# Altium schematic symbol library HeartSoundClone.SCHLIB: 35 symbols
Pins are listed as number, name and electrical type; pins without a type are passive.

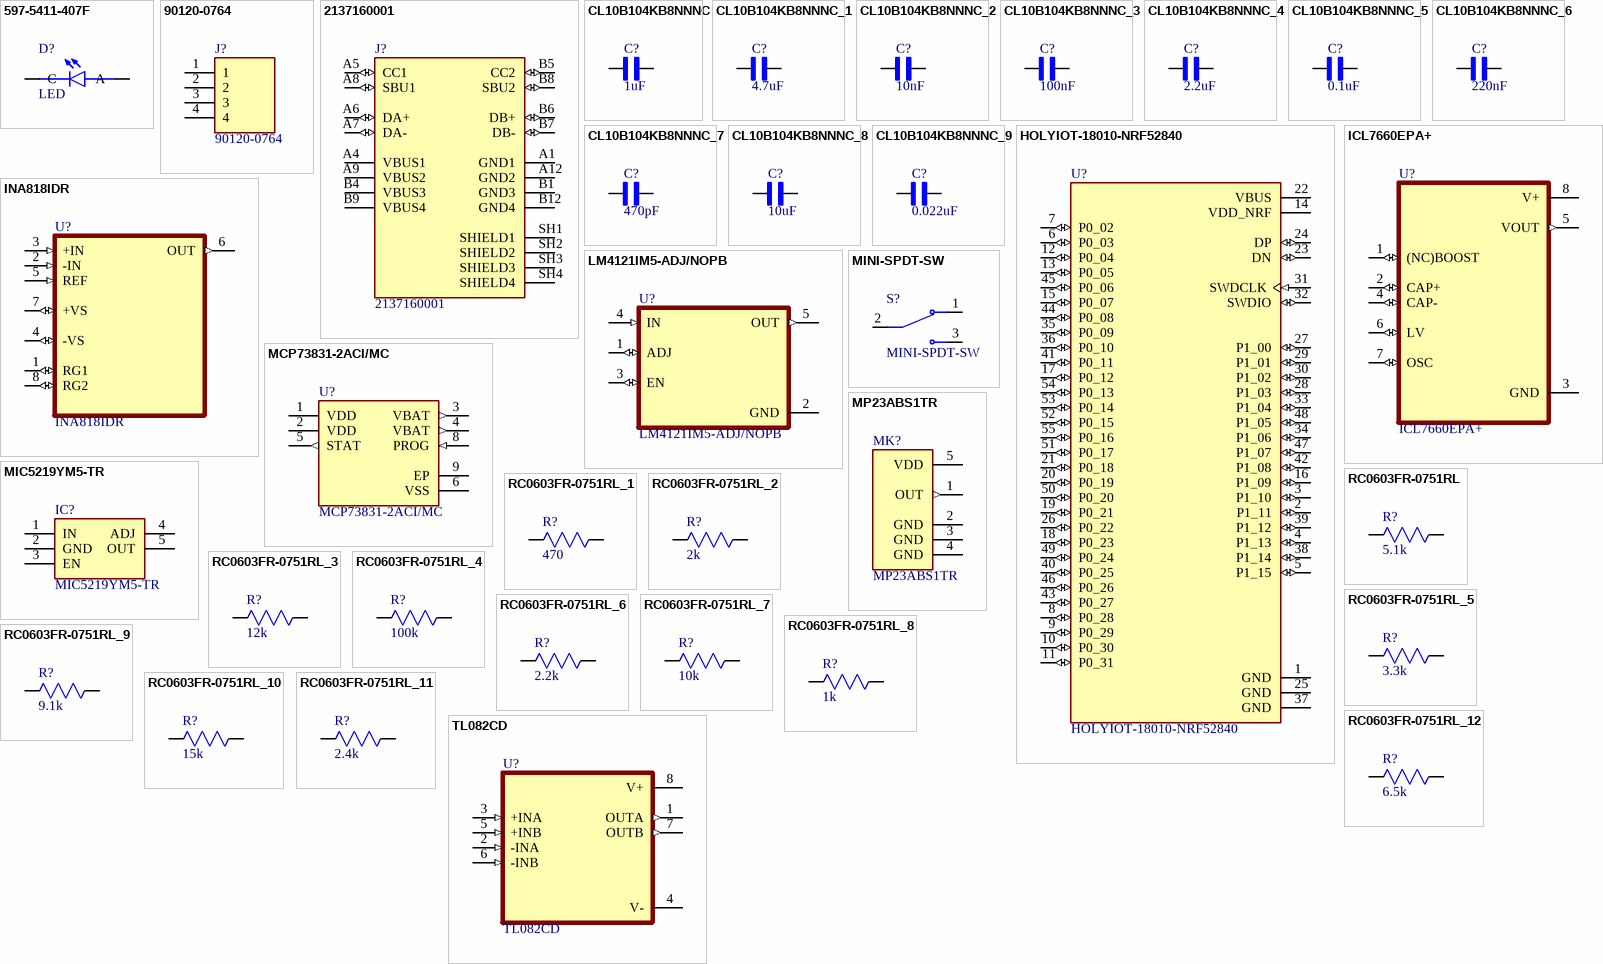
[diagram p0: symbols 597-5411-407F to TL082CD]

## 597-5411-407F
designator D?, comment LED
SMD LED 0805 YG 7 | Dialight 597-5411-407F; SnapEDA_Link: https://www.snapeda.com/parts/597-5411-407F/Dialight/view-part/?ref=snap; Package: 0805 Dialight; Value: *; MF: Dialight; MP: 597-5411-407F; Check_prices: https://www.snapeda.com/parts/597-5411-407F/Dialight/view-part/?ref=eda
footprint LEDC2012X70N
pins: A, C

## 90120-0764
designator J?
Connector; Manufacturer_Name: Molex; Datasheet Link: https://www.molex.com/webdocs/datasheets/pdf/en-us/0901200764_PCB_HEADERS.pdf; Height: 5.6mm; Manufacturer_Part_Number: 90120-0764; Mouser Part Number: 538-90120-0764; Mouser Price/Stock: https://www.mouser.co.uk/ProductDetail/Molex/90120-0764?qs=QSnLD11VNirsMTdnHEPG3Q%3D%3D
footprint HDRV4W90P0X254_1X4_994X249X560P
pins: 1, 2, 3, 4

## 2137160001
designator J?
USB-C (USB TYPE-C) USB 2.0 Receptacle Connector 24 (16+8 Dummy) Position Through Hole, Right Angle; MF: Molex; SnapEDA_Link: https://www.snapeda.com/parts/2137160001/Molex/view-part/?ref=snap; Package: None; Value: *; MP: 2137160001; Check_prices: https://www.snapeda.com/parts/2137160001/Molex/view-part/?ref=eda
footprint MOLEX_2137160001
pins: A1 GND1 (power), A4 VBUS1 (power), A5 CC1 (io), A6 DA+ (io), A7 DA- (io), A8 SBU1 (io), A9 VBUS2 (power), A12 GND2 (power), B1 GND3 (power), B4 VBUS3 (power), B5 CC2 (io), B6 DB+ (io), B7 DB- (io), B8 SBU2 (io), B9 VBUS4 (power), B12 GND4 (power), SH1 SHIELD1, SH2 SHIELD2, SH3 SHIELD3, SH4 SHIELD4

## CL10B104KB8NNNC
designator C?, comment 1uF
0.1 ÂµF Â±10% 50V Ceramic Capacitor X7R 0603 (1608 Metric); MF: Samsung Electro-Mechanics; MP: CL10B104KB8NNNC; SnapEDA_Link: https://www.snapeda.com/parts/CL10B104KB8NNNC/Samsung/view-part/?ref=snap; Package: 1608-2 SAMSUNG; Value: *; Check_prices: https://www.snapeda.com/parts/CL10B104KB8NNNC/Samsung/view-part/?ref=eda
footprint CAPC1608X90N
pins: 1, 2

## CL10B104KB8NNNC_1
designator C?, comment 4.7uF
0.1 ÂµF Â±10% 50V Ceramic Capacitor X7R 0603 (1608 Metric); MF: Samsung Electro-Mechanics; MP: CL10B104KB8NNNC; SnapEDA_Link: https://www.snapeda.com/parts/CL10B104KB8NNNC/Samsung/view-part/?ref=snap; Package: 1608-2 SAMSUNG; Value: *; Check_prices: https://www.snapeda.com/parts/CL10B104KB8NNNC/Samsung/view-part/?ref=eda
footprint CAPC1608X90N
pins: 1, 2

## CL10B104KB8NNNC_2
designator C?, comment 10nF
0.1 ÂµF Â±10% 50V Ceramic Capacitor X7R 0603 (1608 Metric); MF: Samsung Electro-Mechanics; MP: CL10B104KB8NNNC; SnapEDA_Link: https://www.snapeda.com/parts/CL10B104KB8NNNC/Samsung/view-part/?ref=snap; Package: 1608-2 SAMSUNG; Value: *; Check_prices: https://www.snapeda.com/parts/CL10B104KB8NNNC/Samsung/view-part/?ref=eda
footprint CAPC1608X90N
pins: 1, 2

## CL10B104KB8NNNC_3
designator C?, comment 100nF
0.1 ÂµF Â±10% 50V Ceramic Capacitor X7R 0603 (1608 Metric); MF: Samsung Electro-Mechanics; MP: CL10B104KB8NNNC; SnapEDA_Link: https://www.snapeda.com/parts/CL10B104KB8NNNC/Samsung/view-part/?ref=snap; Package: 1608-2 SAMSUNG; Value: *; Check_prices: https://www.snapeda.com/parts/CL10B104KB8NNNC/Samsung/view-part/?ref=eda
footprint CAPC1608X90N
pins: 1, 2

## CL10B104KB8NNNC_4
designator C?, comment 2.2uF
0.1 ÂµF Â±10% 50V Ceramic Capacitor X7R 0603 (1608 Metric); MF: Samsung Electro-Mechanics; MP: CL10B104KB8NNNC; SnapEDA_Link: https://www.snapeda.com/parts/CL10B104KB8NNNC/Samsung/view-part/?ref=snap; Package: 1608-2 SAMSUNG; Value: *; Check_prices: https://www.snapeda.com/parts/CL10B104KB8NNNC/Samsung/view-part/?ref=eda
footprint CAPC1608X90N
pins: 1, 2

## CL10B104KB8NNNC_5
designator C?, comment 0.1uF
0.1 ÂµF Â±10% 50V Ceramic Capacitor X7R 0603 (1608 Metric); MF: Samsung Electro-Mechanics; MP: CL10B104KB8NNNC; SnapEDA_Link: https://www.snapeda.com/parts/CL10B104KB8NNNC/Samsung/view-part/?ref=snap; Package: 1608-2 SAMSUNG; Value: *; Check_prices: https://www.snapeda.com/parts/CL10B104KB8NNNC/Samsung/view-part/?ref=eda
footprint CAPC1608X90N
pins: 1, 2

## CL10B104KB8NNNC_6
designator C?, comment 220nF
0.1 ÂµF Â±10% 50V Ceramic Capacitor X7R 0603 (1608 Metric); MF: Samsung Electro-Mechanics; MP: CL10B104KB8NNNC; SnapEDA_Link: https://www.snapeda.com/parts/CL10B104KB8NNNC/Samsung/view-part/?ref=snap; Package: 1608-2 SAMSUNG; Value: *; Check_prices: https://www.snapeda.com/parts/CL10B104KB8NNNC/Samsung/view-part/?ref=eda
footprint CAPC1608X90N
pins: 1, 2

## CL10B104KB8NNNC_7
designator C?, comment 470pF
0.1 ÂµF Â±10% 50V Ceramic Capacitor X7R 0603 (1608 Metric); MF: Samsung Electro-Mechanics; MP: CL10B104KB8NNNC; SnapEDA_Link: https://www.snapeda.com/parts/CL10B104KB8NNNC/Samsung/view-part/?ref=snap; Package: 1608-2 SAMSUNG; Value: *; Check_prices: https://www.snapeda.com/parts/CL10B104KB8NNNC/Samsung/view-part/?ref=eda
footprint CAPC1608X90N
pins: 1, 2

## CL10B104KB8NNNC_8
designator C?, comment 10uF
0.1 ÂµF Â±10% 50V Ceramic Capacitor X7R 0603 (1608 Metric); MF: Samsung Electro-Mechanics; MP: CL10B104KB8NNNC; SnapEDA_Link: https://www.snapeda.com/parts/CL10B104KB8NNNC/Samsung/view-part/?ref=snap; Package: 1608-2 SAMSUNG; Value: *; Check_prices: https://www.snapeda.com/parts/CL10B104KB8NNNC/Samsung/view-part/?ref=eda
footprint CAPC1608X90N
pins: 1, 2

## CL10B104KB8NNNC_9
designator C?, comment 0.022uF
0.1 ÂµF Â±10% 50V Ceramic Capacitor X7R 0603 (1608 Metric); MF: Samsung Electro-Mechanics; MP: CL10B104KB8NNNC; SnapEDA_Link: https://www.snapeda.com/parts/CL10B104KB8NNNC/Samsung/view-part/?ref=snap; Package: 1608-2 SAMSUNG; Value: *; Check_prices: https://www.snapeda.com/parts/CL10B104KB8NNNC/Samsung/view-part/?ref=eda
footprint CAPC1608X90N
pins: 1, 2

## HOLYIOT-18010-NRF52840
designator U?
Holyiot 18010 Nordic nRF52840 module Bluetooth low energy module; SnapEDA_Link: https://www.snapeda.com/parts/HOLYIOT-18010-NRF52840/Holyiot/view-part/?ref=snap; Package: Package; Value: *; MF: Holyiot; MP: HOLYIOT-18010-NRF52840; Check_prices: https://www.snapeda.com/parts/HOLYIOT-18010-NRF52840/Holyiot/view-part/?ref=eda
footprint XCVR_HOLYIOT-18010-NRF52840
pins: 1 GND (power), 2 P1_11 (io), 3 P1_10 (io), 4 P1_13 (io), 5 P1_15 (io), 6 P0_03 (io), 7 P0_02 (io), 8 P0_28 (io), 9 P0_29 (io), 10 P0_30 (io), 11 P0_31 (io), 12 P0_04 (io), 13 P0_05 (io), 14 VDD_NRF (power), 15 P0_07 (io), 16 P1_09 (io), 17 P0_12 (io), 18 P0_23 (io), 19 P0_21 (io), 20 P0_19 (io), 21 P0_18 (io), 22 VBUS (power), 23 DN (io), 24 DP (io), 25 GND (power), 26 P0_22 (io), 27 P1_00 (io), 28 P1_03 (io), 29 P1_01 (io), 30 P1_02 (io), 31 SWDCLK (in), 32 SWDIO (io), 33 P1_04 (io), 34 P1_06 (io), 35 P0_09 (io), 36 P0_10 (io), 37 GND (power), 38 P1_14 (io), 39 P1_12 (io), 40 P0_25 (io), 41 P0_11 (io), 42 P1_08 (io), 43 P0_27 (io), 44 P0_08 (io), 45 P0_06 (io), 46 P0_26 (io), 47 P1_07 (io), 48 P1_05 (io), 49 P0_24 (io), 50 P0_20 (io), 51 P0_17 (io), 52 P0_15 (io), 53 P0_14 (io), 54 P0_13 (io), 55 P0_16 (io)

## ICL7660EPA+
designator U?
Switched-Capacitor Voltage Converters; MF: Analog Devices; Price: None; Purchase-URL: https://pricing.snapeda.com/search/part/ICL7660EPA+/?ref=eda; Package: PDIP-8 Maxim; Check_prices: https://www.snapeda.com/parts/ICL7660EPA+/Analog+Devices/view-part/?ref=eda; Availability: In Stock; MP: ICL7660EPA+; Value: *; SnapEDA_Link: https://www.snapeda.com/parts/ICL7660EPA+/Analog+Devices/view-part/?ref=snap
footprint DIP794W47P254L991H457Q8
pins: 1 (NC)BOOST (io), 2 CAP+ (io), 3 GND (power), 4 CAP- (io), 5 VOUT (out), 6 LV (io), 7 OSC (io), 8 V+ (power)

## INA818IDR
designator U?
Low power (350-ÂµA), precision instrumentation amp with Â±60-V overvoltage protection (gain pins 1, 8); MF: Texas Instruments; SnapEDA_Link: https://www.snapeda.com/parts/INA818IDR/Texas+Instruments/view-part/?ref=snap; Package: SOIC-8 Texas Instruments; Value: *; MP: INA818IDR; Check_prices: https://www.snapeda.com/parts/INA818IDR/Texas+Instruments/view-part/?ref=eda
footprint SOIC127P599X175-8N
pins: 1 RG1 (io), 2 -IN (in), 3 +IN (in), 4 -VS (io), 5 REF (in), 6 OUT (out), 7 +VS (io), 8 RG2 (io)

## LM4121IM5-ADJ/NOPB
designator U?
Fixed & adjustable-voltage, 0.2% 50-ppm/Â°C drift precision series voltage reference with enable pin; MF: Texas Instruments; SnapEDA_Link: https://www.snapeda.com/parts/LM4121IM5-ADJ/NOPB/Texas+Instruments/view-part/?ref=snap; Package: SOT-23-5 Texas Instruments; Value: *; MP: LM4121IM5-ADJ/NOPB; Check_prices: https://www.snapeda.com/parts/LM4121IM5-ADJ/NOPB/Texas+Instruments/view-part/?ref=eda
footprint SOT95P280X145-5N
pins: 1 ADJ (io), 2 GND (power), 3 EN (io), 4 IN (in), 5 OUT (out)

## MCP73831-2ACI/MC
designator U?
Charge Controller Li-Ion/Li-Pol 15mA to 500mA 4.2V 8-Pin DFN EP | Microchip Technology Inc. MCP73831-2ACI/MC; SnapEDA_Link: https://www.snapeda.com/parts/MCP73831-2ACI/MC/Microchip/view-part/?ref=snap; Package: VFDFN-8 Microchip; Value: *; MF: Microchip; MP: MCP73831-2ACI/MC; Check_prices: https://www.snapeda.com/parts/MCP73831-2ACI/MC/Microchip/view-part/?ref=eda
footprint SON50P200X300X100-9N
pins: 1 VDD (power), 2 VDD (power), 3 VBAT (out), 4 VBAT (out), 5 STAT (out), 6 VSS (power), 8 PROG (in), 9 EP (power)

## MIC5219YM5-TR
designator IC?
Integrated Circuit; Manufacturer_Name: Microchip; Datasheet Link: http://www.microchip.com/mymicrochip/filehandler.aspx?ddocname=en579712; Height: 1.45mm; Manufacturer_Part_Number: MIC5219YM5-TR; Mouser Part Number: 998-MIC5219YM5TR; Mouser Price/Stock: https://www.mouser.co.uk/ProductDetail/Microchip-Technology/MIC5219YM5-TR?qs=U6T8BxXiZAWfHDmqF70%2FoQ%3D%3D; Arrow Part Number: MIC5219YM5-TR; Arrow Price/Stock: https://www.arrow.com/en/products/mic5219ym5-tr/microchip-technology?utm_currency=USD&region=nac
footprint SOT95P280X145-5N
pins: 1 IN, 2 GND, 3 EN, 4 ADJ, 5 OUT

## MINI-SPDT-SW
designator S?
Simple breadboard friendly SPDT slide switch. Rated at 30V/200mA with operating force of 250 +/-100gf.; Availability: Unavailable; Package: None; MP: MINI-SPDT-SW; Value: *; Price: None
footprint SW_MINI-SPDT-SW
pins: 1, 2, 3

## MP23ABS1TR
designator MK?
35 Hz ~ 1.5 kHz Analog Microphone MEMS (Silicon) Omnidirectional (-38dB Â±1dB @ 94dB SPL) Solder Pads; MF: STMicroelectronics; SnapEDA_Link: https://www.snapeda.com/parts/MP23ABS1TR/STMicroelectronics/view-part/?ref=snap; Package: None; Value: *; MP: MP23ABS1TR; Check_prices: https://www.snapeda.com/parts/MP23ABS1TR/STMicroelectronics/view-part/?ref=eda
footprint MIC_MP23ABS1TR
pins: 1 OUT (out), 2 GND (power), 3 GND (power), 4 GND (power), 5 VDD (power)

## RC0603FR-0751RL
designator R?, comment 5.1k
51 Ohms Â±1% 0.1W, 1/10W Chip Resistor 0603 (1608 Metric) Moisture Resistant Thick Film; MF: Yageo Corporation; MP: RC0603FR0751RL; SnapEDA_Link: https://www.snapeda.com/parts/RC0603FR0751RL/Yageo/view-part/?ref=snap; Package: 0603-2 YAGEO; Value: *; Check_prices: https://www.snapeda.com/parts/RC0603FR0751RL/Yageo/view-part/?ref=eda
footprint RESC1608X60N
pins: 1 R1, 2 R2

## RC0603FR-0751RL_1
designator R?, comment 470
51 Ohms Â±1% 0.1W, 1/10W Chip Resistor 0603 (1608 Metric) Moisture Resistant Thick Film; MF: Yageo Corporation; MP: RC0603FR0751RL; SnapEDA_Link: https://www.snapeda.com/parts/RC0603FR0751RL/Yageo/view-part/?ref=snap; Package: 0603-2 YAGEO; Value: *; Check_prices: https://www.snapeda.com/parts/RC0603FR0751RL/Yageo/view-part/?ref=eda
footprint RESC1608X60N
pins: 1 R1, 2 R2

## RC0603FR-0751RL_2
designator R?, comment 2k
51 Ohms Â±1% 0.1W, 1/10W Chip Resistor 0603 (1608 Metric) Moisture Resistant Thick Film; MF: Yageo Corporation; MP: RC0603FR0751RL; SnapEDA_Link: https://www.snapeda.com/parts/RC0603FR0751RL/Yageo/view-part/?ref=snap; Package: 0603-2 YAGEO; Value: *; Check_prices: https://www.snapeda.com/parts/RC0603FR0751RL/Yageo/view-part/?ref=eda
footprint RESC1608X60N
pins: 1 R1, 2 R2

## RC0603FR-0751RL_3
designator R?, comment 12k
51 Ohms Â±1% 0.1W, 1/10W Chip Resistor 0603 (1608 Metric) Moisture Resistant Thick Film; MF: Yageo Corporation; MP: RC0603FR0751RL; SnapEDA_Link: https://www.snapeda.com/parts/RC0603FR0751RL/Yageo/view-part/?ref=snap; Package: 0603-2 YAGEO; Value: *; Check_prices: https://www.snapeda.com/parts/RC0603FR0751RL/Yageo/view-part/?ref=eda
footprint RESC1608X60N
pins: 1 R1, 2 R2

## RC0603FR-0751RL_4
designator R?, comment 100k
51 Ohms Â±1% 0.1W, 1/10W Chip Resistor 0603 (1608 Metric) Moisture Resistant Thick Film; MF: Yageo Corporation; MP: RC0603FR0751RL; SnapEDA_Link: https://www.snapeda.com/parts/RC0603FR0751RL/Yageo/view-part/?ref=snap; Package: 0603-2 YAGEO; Value: *; Check_prices: https://www.snapeda.com/parts/RC0603FR0751RL/Yageo/view-part/?ref=eda
footprint RESC1608X60N
pins: 1 R1, 2 R2

## RC0603FR-0751RL_5
designator R?, comment 3.3k
51 Ohms Â±1% 0.1W, 1/10W Chip Resistor 0603 (1608 Metric) Moisture Resistant Thick Film; MF: Yageo Corporation; MP: RC0603FR0751RL; SnapEDA_Link: https://www.snapeda.com/parts/RC0603FR0751RL/Yageo/view-part/?ref=snap; Package: 0603-2 YAGEO; Value: *; Check_prices: https://www.snapeda.com/parts/RC0603FR0751RL/Yageo/view-part/?ref=eda
footprint RESC1608X60N
pins: 1 R1, 2 R2

## RC0603FR-0751RL_6
designator R?, comment 2.2k
51 Ohms Â±1% 0.1W, 1/10W Chip Resistor 0603 (1608 Metric) Moisture Resistant Thick Film; MF: Yageo Corporation; MP: RC0603FR0751RL; SnapEDA_Link: https://www.snapeda.com/parts/RC0603FR0751RL/Yageo/view-part/?ref=snap; Package: 0603-2 YAGEO; Value: *; Check_prices: https://www.snapeda.com/parts/RC0603FR0751RL/Yageo/view-part/?ref=eda
footprint RESC1608X60N
pins: 1 R1, 2 R2

## RC0603FR-0751RL_7
designator R?, comment 10k
51 Ohms Â±1% 0.1W, 1/10W Chip Resistor 0603 (1608 Metric) Moisture Resistant Thick Film; MF: Yageo Corporation; MP: RC0603FR0751RL; SnapEDA_Link: https://www.snapeda.com/parts/RC0603FR0751RL/Yageo/view-part/?ref=snap; Package: 0603-2 YAGEO; Value: *; Check_prices: https://www.snapeda.com/parts/RC0603FR0751RL/Yageo/view-part/?ref=eda
footprint RESC1608X60N
pins: 1 R1, 2 R2

## RC0603FR-0751RL_8
designator R?, comment 1k
51 Ohms Â±1% 0.1W, 1/10W Chip Resistor 0603 (1608 Metric) Moisture Resistant Thick Film; MF: Yageo Corporation; MP: RC0603FR0751RL; SnapEDA_Link: https://www.snapeda.com/parts/RC0603FR0751RL/Yageo/view-part/?ref=snap; Package: 0603-2 YAGEO; Value: *; Check_prices: https://www.snapeda.com/parts/RC0603FR0751RL/Yageo/view-part/?ref=eda
footprint RESC1608X60N
pins: 1 R1, 2 R2

## RC0603FR-0751RL_9
designator R?, comment 9.1k
51 Ohms Â±1% 0.1W, 1/10W Chip Resistor 0603 (1608 Metric) Moisture Resistant Thick Film; MF: Yageo Corporation; MP: RC0603FR0751RL; SnapEDA_Link: https://www.snapeda.com/parts/RC0603FR0751RL/Yageo/view-part/?ref=snap; Package: 0603-2 YAGEO; Value: *; Check_prices: https://www.snapeda.com/parts/RC0603FR0751RL/Yageo/view-part/?ref=eda
footprint RESC1608X60N
pins: 1 R1, 2 R2

## RC0603FR-0751RL_10
designator R?, comment 15k
51 Ohms Â±1% 0.1W, 1/10W Chip Resistor 0603 (1608 Metric) Moisture Resistant Thick Film; MF: Yageo Corporation; MP: RC0603FR0751RL; SnapEDA_Link: https://www.snapeda.com/parts/RC0603FR0751RL/Yageo/view-part/?ref=snap; Package: 0603-2 YAGEO; Value: *; Check_prices: https://www.snapeda.com/parts/RC0603FR0751RL/Yageo/view-part/?ref=eda
footprint RESC1608X60N
pins: 1 R1, 2 R2

## RC0603FR-0751RL_11
designator R?, comment 2.4k
51 Ohms Â±1% 0.1W, 1/10W Chip Resistor 0603 (1608 Metric) Moisture Resistant Thick Film; MF: Yageo Corporation; MP: RC0603FR0751RL; SnapEDA_Link: https://www.snapeda.com/parts/RC0603FR0751RL/Yageo/view-part/?ref=snap; Package: 0603-2 YAGEO; Value: *; Check_prices: https://www.snapeda.com/parts/RC0603FR0751RL/Yageo/view-part/?ref=eda
footprint RESC1608X60N
pins: 1 R1, 2 R2

## RC0603FR-0751RL_12
designator R?, comment 6.5k
51 Ohms Â±1% 0.1W, 1/10W Chip Resistor 0603 (1608 Metric) Moisture Resistant Thick Film; MF: Yageo Corporation; MP: RC0603FR0751RL; SnapEDA_Link: https://www.snapeda.com/parts/RC0603FR0751RL/Yageo/view-part/?ref=snap; Package: 0603-2 YAGEO; Value: *; Check_prices: https://www.snapeda.com/parts/RC0603FR0751RL/Yageo/view-part/?ref=eda
footprint RESC1608X60N
pins: 1 R1, 2 R2

## TL082CD
designator U?
Dual, 30-V, 3-MHz, 13-V/Âµs slew rate, In to V+, JFET-input op amp; MF: Texas Instruments; SnapEDA_Link: https://www.snapeda.com/parts/TL082CD/Texas+Instruments/view-part/?ref=snap; Package: SOIC-8 Texas Instruments; Value: *; MP: TL082CD; Check_prices: https://www.snapeda.com/parts/TL082CD/Texas+Instruments/view-part/?ref=eda
footprint SOIC127P599X175-8N
pins: 1 OUTA (out), 2 -INA (in), 3 +INA (in), 4 V- (power), 5 +INB (in), 6 -INB (in), 7 OUTB (out), 8 V+ (power)